# Altium footprint library TO.PcbLib: 26 footprints (part 1 of 2)
Each footprint in its own frame and in the unit in brackets; x right, y up, seen from the top. Pads: shape width x height; smd on the part's side, far side on the other; paste and mask are expansions set on the pad; w line width, h text height; cw(c..) or ccw(c..) is an arc to the next point about the centre after c.
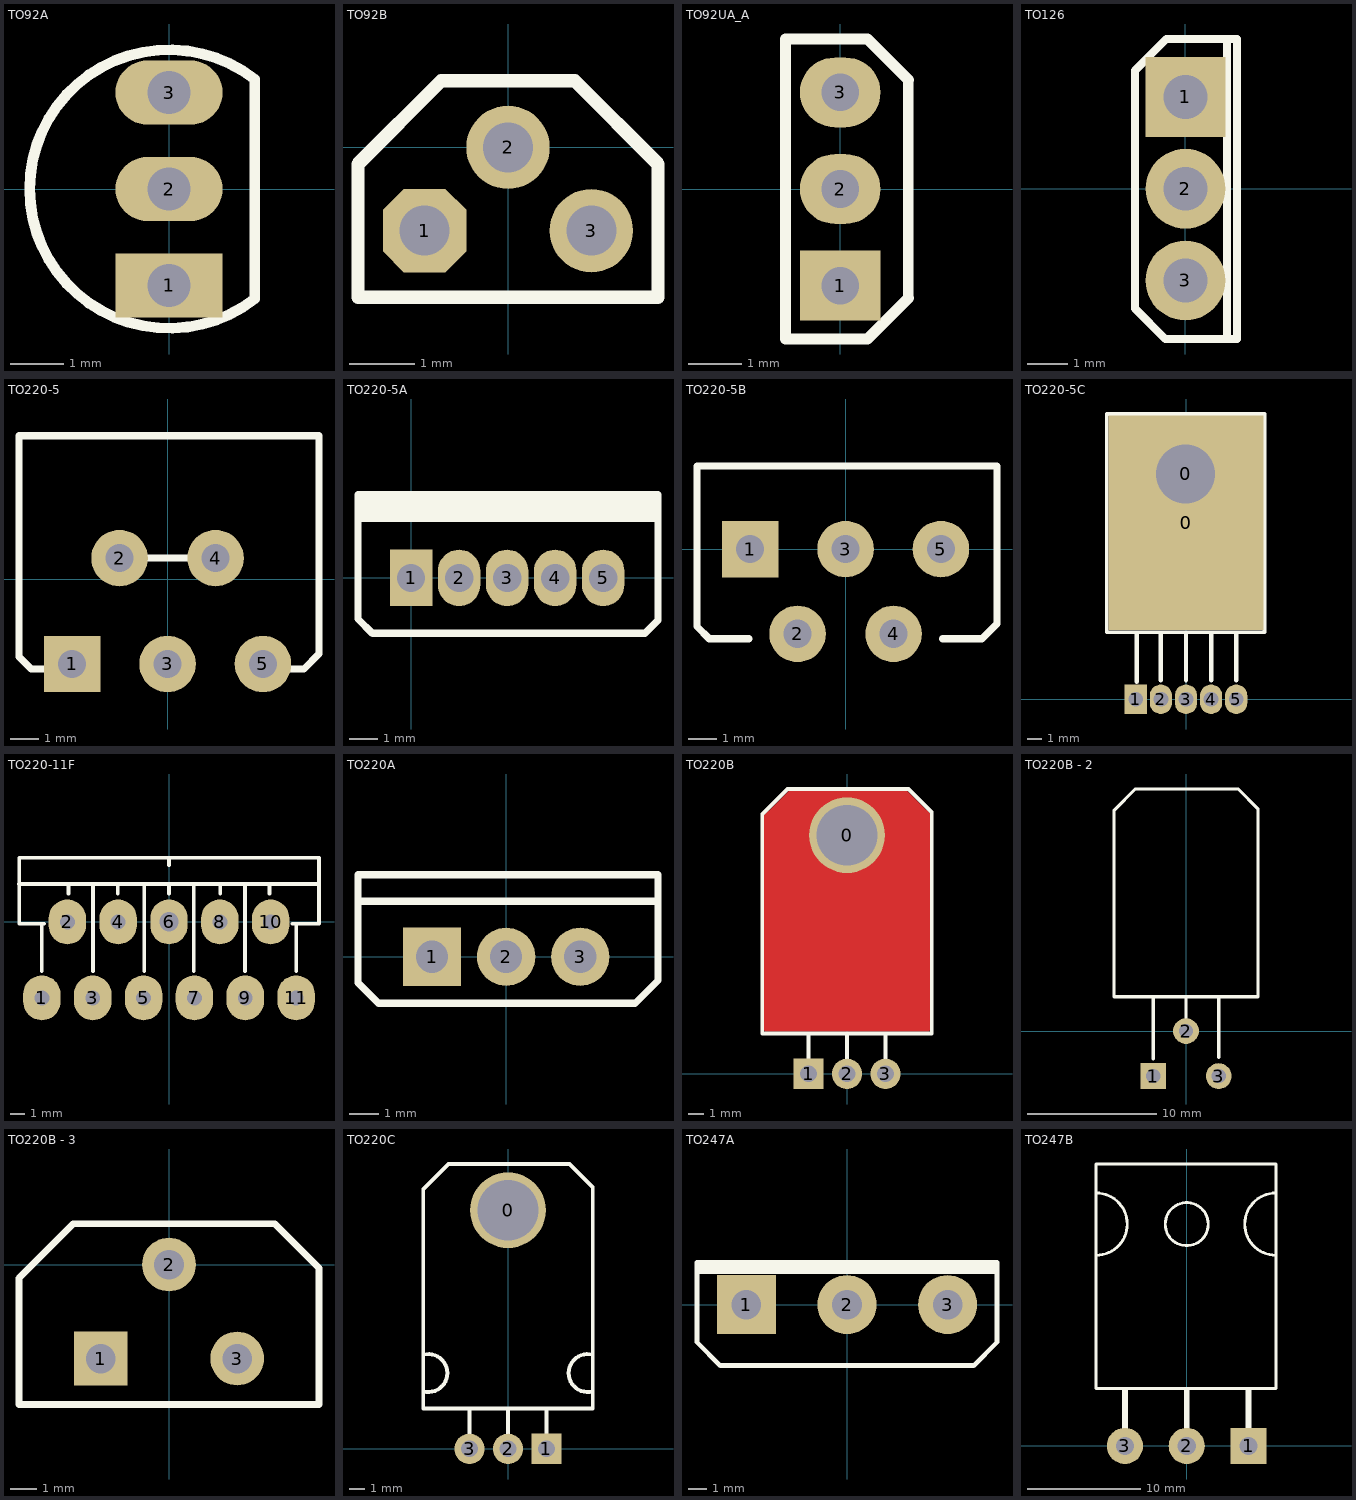
[diagram p0: the footprints below, top view; thin cyan lines are the x and y axes]

## TO92A [mm] "92晶体管"
height 5.33
pads (3):
  rect 2x1.2 hole 0.8: 1(0,-1.8)
  oval 2x1.2 hole 0.8: 2(0,0) 3(0,1.8)
Top Overlay:
  lines w0.2: 1.601,-2.049 cw(c0,0) 1.601,2.049 ; 1.6,-1.99 1.6,1.99
3D body "TO92A.STEP": height 7.6, standoff -3, extent -2.3,-2.3 1.3,2.3

## TO92B [mil] "92晶体管"
pads (3):
  oct 50x50 hole 30: 1(-50,-50)
  round 50 hole 30: 2(0,0) 3(50,-50)
Top Overlay:
  lines w8: -90,-90 -90,-10 -40,40 40,40 90,-10 90,-90 -90,-90
3D body "TO92B.STEP": height 118.11, standoff -299.21, extent -90.55,-100.99 90.55,40.55

## TO92UA_A [mm] "92晶体管"
height 5.33
pads (3):
  rect 1.5x1.3 hole 0.7: 1(0,-1.8)
  oval 1.5x1.3 hole 0.7: 2(0,0) 3(0,1.8)
Top Overlay:
  lines w0.2: 1.27,-2.032 1.27,2.032
  lines w0.203: 1.27,-2.032 0.508,-2.794 -1.016,-2.794 -1.016,2.794 0.508,2.794 1.27,2.032
3D body "TO92UA_A.STEP": height 6, standoff -3, extent -0.6,-2.05 0.95,2.05

## TO126 [mm] "126晶体管"
pads (3):
  rect 2x2 hole 1.1: 1(0,2.3)
  round 2 hole 1.1: 2(0,0) 3(0,-2.3)
Top Overlay:
  lines w0.2: 1.041,-3.734 1.041,3.734 ; -1.268,-3.005 -1.268,2.964 -0.48,3.752 1.295,3.752 1.295,-3.767 -0.506,-3.767 -1.268,-3.005
3D body "TO126.STEP": height 15, standoff -4, extent -1.2,-4 1.6,4

## TO220-5 [mm] "220，5特殊封装(该封装为顾客提供）"
pads (5):
  rect 2x2 hole 1: 1(-3.378,-3)
  round 2 hole 1: 2(-1.7,0.75) 3(0,-3) 4(1.7,0.75) 5(3.378,-3)
Top Overlay:
  lines w0.254: -3.429,-3.175 -4.826,-3.175 -5.258,-2.743 -5.258,1.34 -5.258,5.08 5.362,5.08 5.362,1.432 5.362,-2.639 4.826,-3.175 3.429,-3.175 ; -1.7,0.75 1.7,0.75
3D body "SW3dPS-TO220-5.STEP": height 21.35, standoff -2.64, extent -5.08,-3.25 5.08,4.99

## TO220-5A [mm] "220，5脚晶体管"
pads (5):
  rect 1.5x2 hole 1: 1(0,0)
  oval 1.5x2 hole 1: 2(1.7,0) 3(3.4,0) 4(5.1,0) 5(6.8,0)
Top Overlay:
  rectangle: -1.88,2.189 8.74,2.946
  lines w0.254: -1.88,2.102 8.74,2.102 ; -1.88,-1.454 -1.88,1.34 -1.88,2.946 8.74,2.946 8.74,1.432 8.74,-1.502 8.28,-1.962 -1.372,-1.962 -1.88,-1.454
3D body "TO220-5A.STEP": height 17.5, standoff -4, extent -1.65,-1.8 8.45,2.7

## TO220-5B [mm] "220，5脚晶体管"
pads (5):
  rect 2x2 hole 1: 1(-3.378,0)
  round 2 hole 1: 2(-1.7,-3) 3(0,0) 4(1.7,-3) 5(3.378,0)
Top Overlay:
  lines w0.254: -3.429,-3.175 -4.826,-3.175 -5.258,-2.743 -5.258,1.34 -5.258,2.946 5.362,2.946 5.362,1.432 5.362,-2.639 4.826,-3.175 3.429,-3.175
3D body "TO220-5B.STEP": height 17.5, standoff -4, extent -5.05,-3.225 5.05,2.7

## TO220-5C [mm] "220，5脚晶体管"
pads (7):
  round 4.2 hole 4: 0(-0.022,15.247)
  rect 10.5x14.5 smd: 0(0,11.938)
  rect 1.5x2 hole 1: 1(-3.4,0)
  oval 1.5x2 hole 1: 2(-1.7,0) 3(0,0) 4(1.7,0) 5(3.4,0)
Top Overlay:
  lines w0.254: -5.356,4.528 -5.356,19.304 5.312,19.304 5.312,4.528 -3.832,4.528 -5.356,4.528
  lines w0.3: -3.324,1.194 -3.324,4.369 ; -1.7,1.27 -1.7,4.445 ; 0,1.27 0,4.445 ; 1.7,1.27 1.7,4.445 ; 3.4,1.27 3.4,4.445
3D body "TO220-5C.STEP": height 4.5, standoff -3, extent -5.05,-0.225 5.05,18.1

## TO220-11F [mm] "TO22 11脚塑封"
pads (11):
  oval 2.5x3 hole 1: 1(-8.5,-5.08) 2(-6.8,0) 3(-5.1,-5.08) 4(-3.4,0) 5(-1.7,-5.08) 7(1.7,-5.08) 8(3.4,0) 9(5.1,-5.08) 10(6.8,0) 11(8.5,-5.08)
  oval 2.5x3 hole 1.3: 6(0,0)
Top Overlay:
  lines w0.254: -10.033,2.54 10.033,2.54 ; -8.509,-3.302 -8.509,-0.127 ; -8.359,-0.127 -10.01,-0.127 -10.01,4.29 10.01,4.29 10.033,4.29 10.033,-0.127 8.255,-0.127 ; -6.731,1.905 -6.731,2.54 ; -5.08,-3.302 -5.08,2.54 ; -3.429,1.905 -3.429,2.54 ; -1.651,-3.302 -1.651,2.54 ; 0,1.905 0,2.54 ; 0,3.81 0,4.29 ; 1.651,-3.302 1.651,2.54 ; 3.429,1.905 3.429,2.54 ; 5.08,-3.302 5.08,2.54 ; 6.731,1.905 6.731,2.54 ; 8.509,-3.302 8.509,-0.127
3D body "TO220-11F.STEP": height 22.65, standoff -3.5, extent -10.01,-5.255 10.01,4.29

## TO220A [mm] "220，3脚晶体管"
pads (3):
  rect 2x2 hole 1.1: 1(-2.54,0)
  round 2 hole 1.1: 2(0,0) 3(2.54,0)
Top Overlay:
  lines w0.254: -4.928,1.905 5.131,1.905 ; -5.08,-0.889 -5.08,2.819 5.207,2.819 5.207,-0.813 4.42,-1.6 -4.369,-1.6 -5.08,-0.889
3D body "TO220A.STEP": height 18.5, standoff -4, extent -5.15,-1.53 5.15,2.9

## TO220B [mm] "220，3脚晶体管"
pads (4):
  round 5 hole 4: 0(0,15.748)
  rect 2x2 hole 1.1: 1(-2.54,0)
  round 2 hole 1.1: 2(0,0) 3(2.54,0)
Top Layer:
  rectangle: 3.81,17.526 4.445,18.034
  rectangle: 4.445,16.891 5.143,17.335
  rectangle: -4.826,17.018 -4.572,17.526
  rectangle: -4.318,17.653 -3.81,18.034
  rectangle: -4.572,16.891 -3.81,17.653
  rectangle: 4.064,16.891 4.699,17.78
  rectangle: -3.81,16.891 4.064,18.542
  rectangle: -5.334,2.921 5.334,17.018
  lines w0.254: -5.207,16.891 -3.81,18.288 ; -4.826,17.018 -3.81,18.034 ; 3.937,18.288 4.826,17.272 5.334,17.018 4.699,17.526 ; -5.334,2.921 -5.08,2.921 5.334,2.921 5.334,3.429 5.334,17.145 4.953,17.526 3.937,18.542 3.429,18.542 -3.81,18.542 -4.826,17.526 -5.334,17.018 -5.334,16.637 -5.334,2.921
Top Overlay:
  lines w0.254: -2.54,0.737 -2.54,2.667 ; 0,0.711 0,2.667 ; 2.54,0.686 2.54,2.667 ; -5.588,2.667 -5.588,17.145 -3.937,18.796 4.064,18.796 5.588,17.272 5.588,2.667 -5.588,2.667
3D body "TO220B.STEP": height 4.43, standoff -3, extent -5.15,-0.25 5.15,18.5

## TO220B - 2 [mm] "220，3脚晶体管"
pads (3):
  rect 2x2 hole 1.1: 1(-2.54,-3.5)
  round 2 hole 1.1: 2(0,0) 3(2.54,-3.5)
Top Overlay:
  lines w0.254: -2.54,-2.159 -2.54,2.667 ; 0,0.711 0,2.667 ; 2.54,-2.032 2.54,2.667 ; -5.588,2.667 5.588,2.667 5.588,17.272 4.064,18.796 -3.937,18.796 -5.588,17.145 -5.588,2.667
3D body "TO220B.STEP": height 4.43, standoff -3, extent -5.15,-0.25 5.15,18.5

## TO220B - 3 [mm] "220，3脚晶体管"
pads (3):
  rect 2x2 hole 1.1: 1(-2.54,-3.5)
  round 2 hole 1.1: 2(0,0) 3(2.54,-3.5)
Top Overlay:
  lines w0.254: -5.588,-5.207 5.588,-5.207 5.588,-0.127 3.937,1.524 -3.556,1.524 -5.588,-0.508 -5.588,-5.207

## TO220C [mm] "220，3脚晶体管"
pads (4):
  round 5 hole 4: 0(0,15.748)
  rect 2x2 hole 1.1: 1(2.54,0)
  round 2 hole 1.1: 2(0,0) 3(-2.54,0)
Top Overlay:
  lines w0.254: -5.576,3.793 ccw(c-5.25,5) -5.576,6.207 ; -2.54,0.737 -2.54,2.667 ; 0,0.711 0,2.667 ; 2.54,0.686 2.54,2.667 ; 5.576,3.793 cw(c5.25,5) 5.576,6.207 ; -5.588,2.667 5.588,2.667 5.588,17.272 4.064,18.796 -3.937,18.796 -5.588,17.145 -5.588,2.667
3D body "TO220C.STEP": height 4.43, standoff -3.5, extent -5.15,-0.25 5.15,18.5

## TO247A [mm] "247，3脚立式封装"
pads (3):
  rect 3.2x3.2 hole 1.6: 1(-5.45,0)
  round 3.2 hole 1.6: 2(0,0) 3(5.45,0)
Top Overlay:
  lines w0.254: -8.128,1.778 8.128,1.778 ; -8.128,1.778 -8.128,-2.032 -6.858,-3.302 6.858,-3.302 8.128,-2.032 8.128,1.778 ; -8.128,1.778 -8.128,2.032 ; -8.128,2.032 8.128,2.032 8.128,1.778 ; -8.128,2.032 -8.128,2.286 8.128,2.286 8.128,1.778
3D body "TO247A.STEP": height 24, standoff -6, extent -7.75,-3 7.75,2

## TO247B [mm] "247，3脚卧式封装"
pads (3):
  rect 3.2x3.2 hole 1.6: 1(5.461,0)
  round 3.2 hole 1.6: 2(0,0) 3(-5.461,0)
Top Overlay:
  circle w0.254: c0,19.58 r1.9
  lines w0.254: -8.001,16.83 ccw(c-8.001,19.58) -8.001,22.33 ; 7.874,16.83 cw(c7.874,19.58) 7.874,22.33 ; -8.001,5.08 -8.001,24.892 7.874,24.892 7.874,5.08 -8.001,5.08
  lines w0.508: -5.461,1.397 -5.461,4.953 ; 0,1.397 0,4.953 ; 5.461,1.397 5.461,4.953
3D body "TO247B.STEP": height 5, standoff -4, extent -7.75,-0.35 7.75,25